# Altium footprint library EPM3032_breakout.PcbLib: 6 footprints
Each footprint in its own frame and in the unit in brackets; x right, y up, seen from the top. Pads: shape width x height; smd on the part's side, far side on the other; paste and mask are expansions set on the pad; w line width, h text height; cw(c..) or ccw(c..) is an arc to the next point about the centre after c.
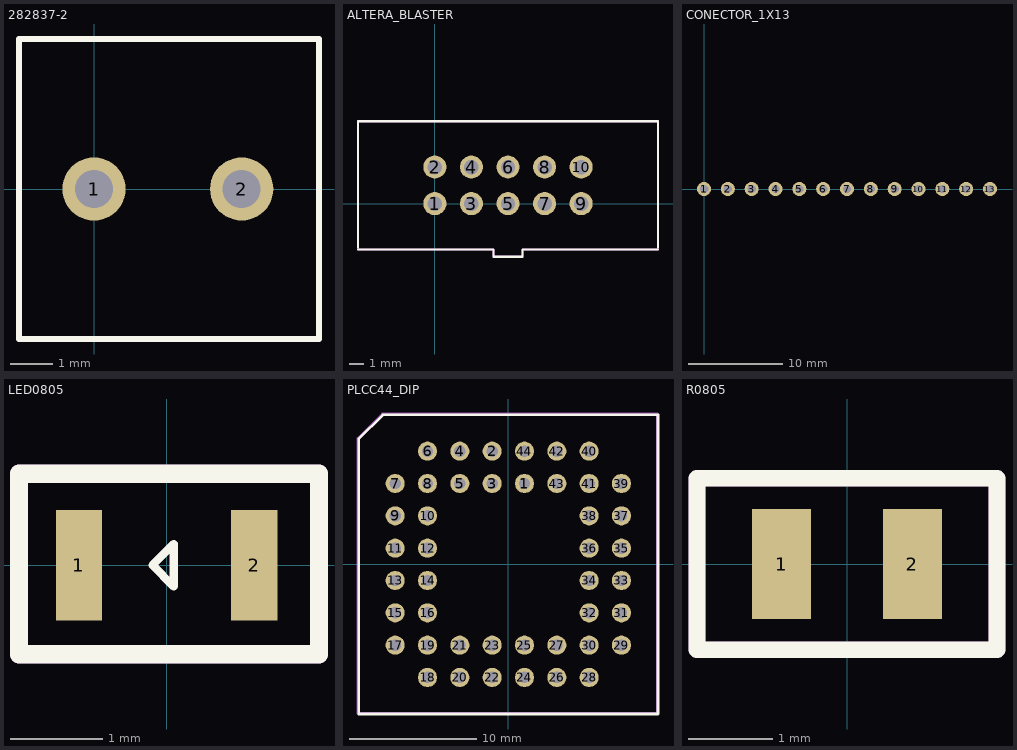
[diagram p0: the footprints below, top view; thin cyan lines are the x and y axes]

## 282837-2 [mm]
pads (2):
  round 1.5 hole 0.9: 1(0,0) 2(3.5,0)
Top Overlay:
  lines w0.152: -1.778,-3.556 -1.778,3.556 5.334,3.556 5.334,-3.556 -1.778,-3.556
Mechanical 1:
  circle w0.2: c0,0 r0.359
  lines w0.152: -1.778,-3.556 5.334,-3.556 5.334,3.556 -1.778,3.556 -1.778,-3.556
  text "'.Designator'" at 1.27,-0.254 h0.7
3D body "User Library-dinkle-ED350V-02P.STEP": height 9.2, standoff -2.5, extent -1.722,-3.371 5.278,3.429

## ALTERA_BLASTER [mm]
pads (10):
  round 1.6 hole 1: 1(0,0) 2(0,2.54) 3(2.54,0) 4(2.54,2.54) 5(5.08,0) 6(5.08,2.54) 7(7.62,0) 8(7.62,2.54) 9(10.16,0) 10(10.16,2.54)
Top Overlay:
  lines w0.152: -5.334,-3.175 4.064,-3.175 4.064,-3.683 6.096,-3.683 6.096,-3.175 15.494,-3.175 ; -5.334,-3.048 -5.334,5.715 15.494,5.715 15.494,-3.048
Mechanical 1:
  circle w0.2: c0,0 r0.18
  lines w0.152: -5.334,-3.175 4.064,-3.175 4.064,-3.683 6.096,-3.683 6.096,-3.175 15.494,-3.175 15.494,5.715 -5.334,5.715 -5.334,-3.175
  text "'.Designator'" at 0.18,0 h1
3D body "User Library-BoxHeader_2R5W_254P_00D.STEP": height 9.11, standoff -3.09, extent -5.207,-3.13 15.393,5.67

## CONECTOR_1X13 [mm]
pads (13):
  round 1.5 hole 0.9: 1(0,0) 2(2.54,0) 3(5.08,0) 4(7.62,0) 5(10.16,0) 6(12.7,0) 7(15.24,0) 8(17.78,0) 9(20.32,0) 10(22.86,0) 11(25.4,0) 12(27.94,0) 13(30.48,0)

## LED0805 [mm]
pads (2):
  rect 0.5x1.2 smd: 1(-0.95,0) 2(0.95,0)
Top Overlay:
  lines w0.09: -0.152,0 0.076,0.229 ; -0.152,0 0.076,0.229 ; -0.152,0 0.076,-0.229 0.076,0.229
  lines w0.2: -1.6,-0.965 -1.6,0.991 1.651,0.991 1.651,-0.965 -1.6,-0.965
Mechanical 1:
  lines w0.2: -1.6,-0.965 -1.6,0.991 1.651,0.991 1.651,-0.965 -1.6,-0.965
  text "'.Designator'" at -1.092,-0.406 h0.7
3D body "led_0805.step": height 1.1, standoff 0, extent -1.01,-0.625 1.01,0.625

## PLCC44_DIP [mm]
pads (44):
  round 1.5 hole 0.9: 1(1.27,6.35) 2(-1.27,8.89) 3(-1.27,6.35) 4(-3.81,8.89) 5(-3.81,6.35) 6(-6.35,8.89) 7(-8.89,6.35) 8(-6.35,6.35) 9(-8.89,3.81) 10(-6.35,3.81) 11(-8.89,1.27) 12(-6.35,1.27) 13(-8.89,-1.27) 14(-6.35,-1.27) 15(-8.89,-3.81) 16(-6.35,-3.81) 17(-8.89,-6.35) 18(-6.35,-8.89) 19(-6.35,-6.35) 20(-3.81,-8.89) 21(-3.81,-6.35) 22(-1.27,-8.89) 23(-1.27,-6.35) 24(1.27,-8.89) 25(1.27,-6.35) 26(3.81,-8.89) 27(3.81,-6.35) 28(6.35,-8.89) 29(8.89,-6.35) 30(6.35,-6.35) 31(8.89,-3.81) 32(6.35,-3.81) 33(8.89,-1.27) 34(6.35,-1.27) 35(8.89,1.27) 36(6.35,1.27) 37(8.89,3.81) 38(6.35,3.81) 39(8.89,6.35) 40(6.35,8.89) 41(6.35,6.35) 42(3.81,8.89) 43(3.81,6.35) 44(1.27,8.89)
Top Overlay:
  lines w0.2: -11.76,-11.76 11.76,-11.76 11.76,11.735 -9.855,11.735 -11.76,9.83 -11.76,-11.76
Mechanical 1:
  lines w0.2: -11.811,-11.684 -11.811,9.906 -9.906,11.811 11.684,11.811 11.684,-11.684 -11.811,-11.684
  text "'.Designator'" at -3.81,-0.889 h1
3D body: height 9, standoff 4, extent -3.75,-3.75 3.75,3.75
3D body "plc44dip.stp": height 8.56, standoff -3.19, extent -11.59,-11.59 11.59,11.59
3D body "PLCC44.step": height 9, standoff 4.4, extent -8.65,-8.65 8.65,8.65

## R0805 [mm]
pads (2):
  rect 0.7x1.3 smd mask+0.02: 1(-0.775,0) 2(0.775,0)
Top Overlay:
  lines w0.2: -1.778,-1.016 -1.778,1.016 1.778,1.016 1.778,-1.016 -1.778,-1.016
Mechanical 1:
  lines w0.2: -1.778,-1.016 1.778,-1.016 1.778,1.016 -1.778,1.016 -1.778,-1.016
  text "'.Designator'" at -0.864,-0.33 h0.7
3D body "RES_2013-0805.step": height 0.77, standoff 0.01, extent -1.15,-0.675 1.15,0.675